# EAGLE library part MINI-SO (library matt smd-special)
Mini-SO generic format
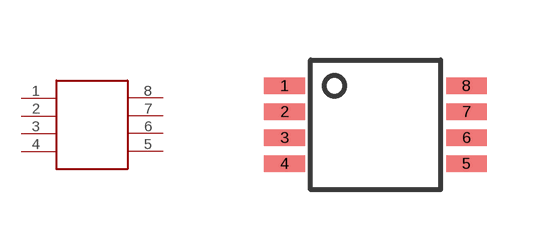
[diagram p0: symbol with the pads of MINI-SO; footprint MINI-SO]

Designator prefix -

## MINI-SO  [MINI-SO]
1  P$1
2  P$2
3  P$3
4  P$4
5  P$5
6  P$6
7  P$7
8  P$8

## Footprint MINI-SO (pad centres in mm)
Used for National Voltage Regulators
smd 1.02 x 0.41: 1 0,0; 2 0,-0.65; 3 0,-1.3; 4 0,-1.95; 5 4.55,-1.95; 6 4.55,-1.3; 7 4.55,-0.65; 8 4.55,0